# Altium footprint library 3phasedriver.PcbLib: 14 footprints
Each footprint in its own frame and in the unit in brackets; x right, y up, seen from the top. Pads: shape width x height; smd on the part's side, far side on the other; paste and mask are expansions set on the pad; w line width, h text height; cw(c..) or ccw(c..) is an arc to the next point about the centre after c.
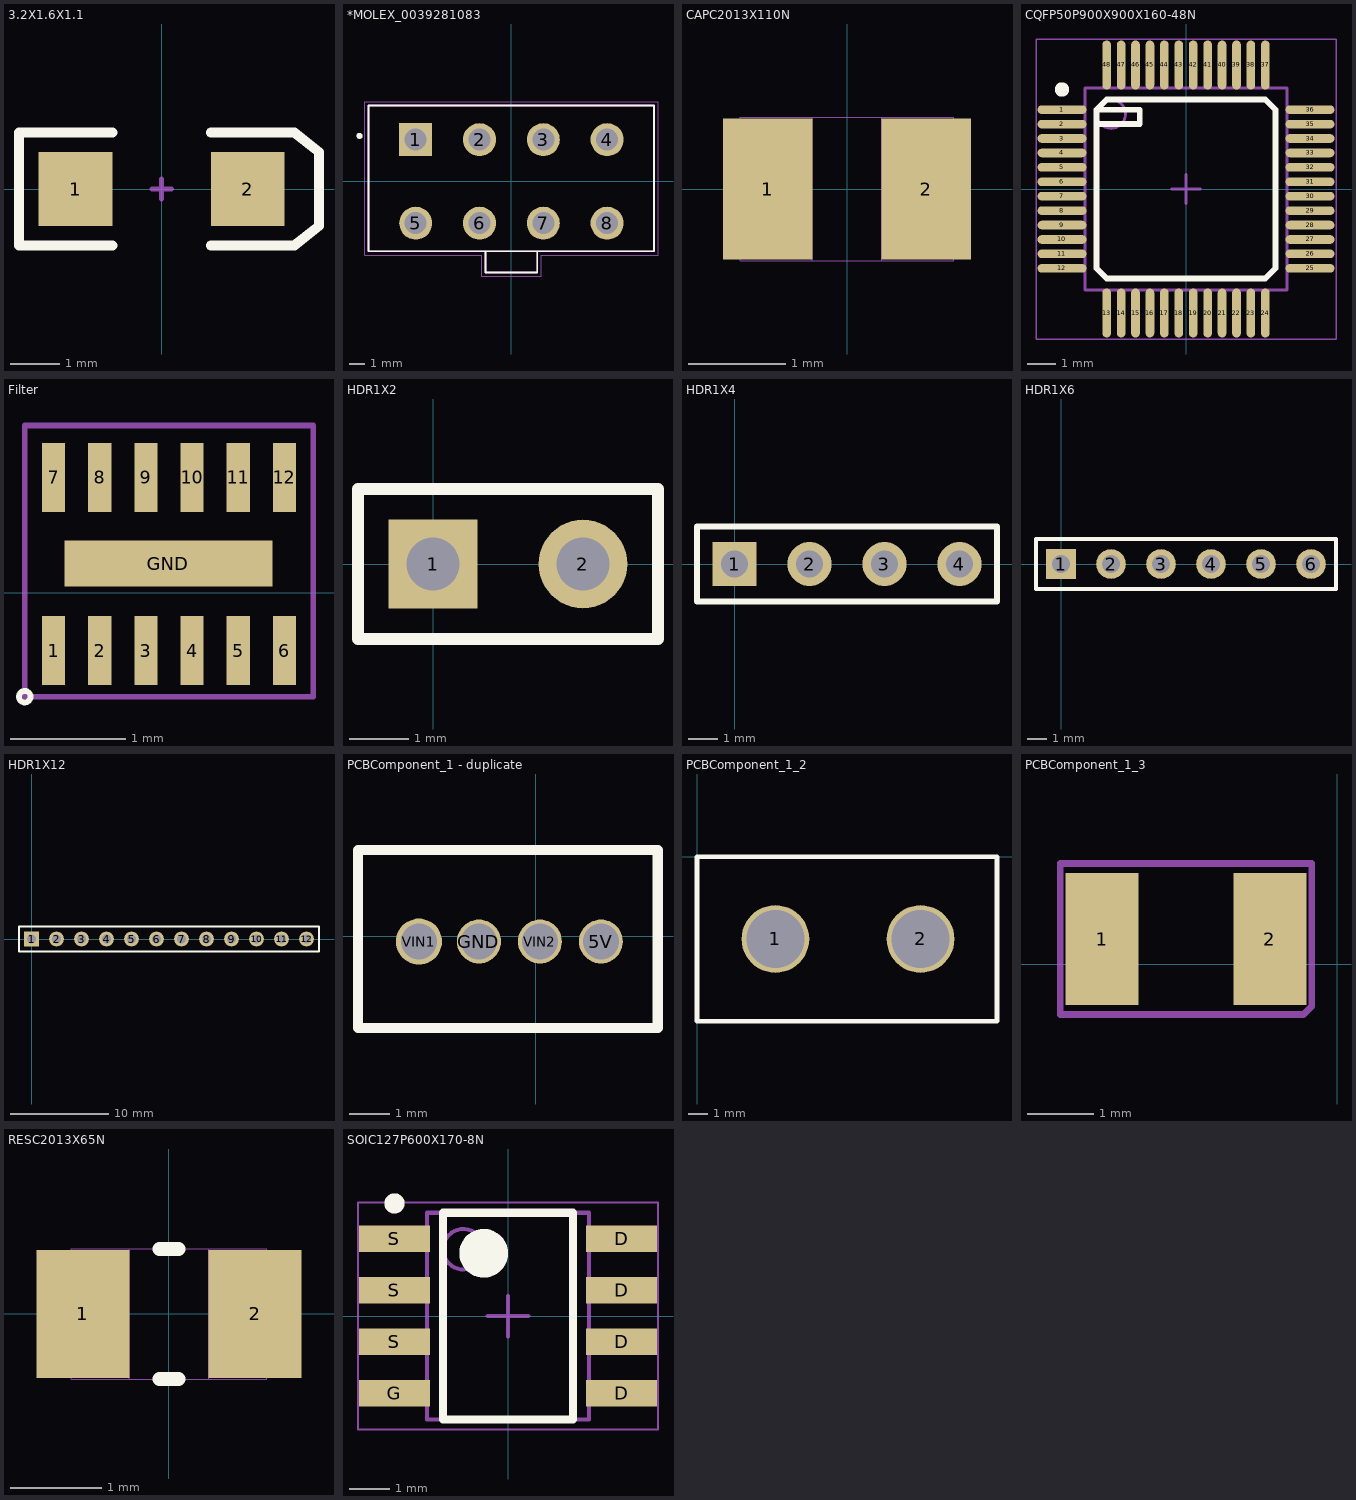
[diagram p0: the footprints below, top view; thin cyan lines are the x and y axes]

## 3.2X1.6X1.1 [mm]
pads (2):
  rect 1.5x1.5 smd: 1(-1.75,0) 2(1.75,0)
Top Overlay:
  lines w0.2: -1,-1.15 -2.9,-1.15 -2.9,1.15 -1,1.15 ; 1,-1.15 2.7,-1.15 3.2,-0.75 3.2,0.75 2.7,1.15 1,1.15
Mechanical 1:
  lines w0.1: -0.2,0 0.2,0 ; 0,-0.2 0,0.2

## *MOLEX_0039281083 [mm]
pads (8):
  rect 2.175x2.175 hole 1.45: 1(-6.3,2.75)
  round 2.175 hole 1.45: 2(-2.1,2.75) 3(2.1,2.75) 4(6.3,2.75) 5(-6.3,-2.75) 6(-2.1,-2.75) 7(2.1,-2.75) 8(6.3,-2.75)
Top Overlay:
  circle w0.2: c-10,3 r0.1
  lines w0.127: -1.7,-4.6 -1.7,-6 1.7,-6 1.7,-4.6 ; -1.7,-4.6 1.7,-4.6 ; -1.7,-4.6 -9.4,-4.6 -9.4,5 9.4,5 9.4,-4.6 1.7,-4.6
Mechanical 4:
  circle w0.2: c-10,3 r0.1
  circle w0.2: c-10,3 r0.1
  lines w0.127: -9.4,-4.6 -1.7,-4.6 ; -9.4,-4.6 -9.4,5 ; -9.4,-4.6 -1.7,-4.6 ; -9.4,-4.6 -9.4,5 ; -9.4,5 9.4,5 ; -9.4,5 9.4,5 ; -1.7,-6 -1.7,-4.6 ; -1.7,-6 1.7,-6 ; -1.7,-6 -1.7,-4.6 ; -1.7,-6 1.7,-6 ; -1.7,-4.6 1.7,-4.6 ; -1.7,-4.6 1.7,-4.6 ; 1.7,-6 1.7,-4.6 ; 1.7,-6 1.7,-4.6 ; 1.7,-4.6 9.4,-4.6 ; 1.7,-4.6 9.4,-4.6 ; 9.4,-4.6 9.4,5 ; 9.4,-4.6 9.4,5
Mechanical 16:
  lines w0.05: -9.65,-4.85 -1.95,-4.85 -1.95,-6.25 1.95,-6.25 1.95,-4.85 9.65,-4.85 9.65,5.25 -9.65,5.25 -9.65,-4.85

## CAPC2013X110N [mil]
pads (2):
  rect 36x57 smd: 1(-32,0) 2(32,0)
Mechanical 1:
  lines w0: -14,-29 14,-29 ; -14,-29 -43,-29 -43,29 -14,29 ; -14,-29 -14,29 ; -14,29 14,29 ; 14,-29 43,-29 43,29 14,29 ; 14,-29 14,29

## CQFP50P900X900X160-48N [mm]
pads (48):
  oval 1.7x0.3 smd: 1(-4.3,2.75) 2(-4.3,2.25) 3(-4.3,1.75) 4(-4.3,1.25) 5(-4.3,0.75) 6(-4.3,0.25) 7(-4.3,-0.25) 8(-4.3,-0.75) 9(-4.3,-1.25) 10(-4.3,-1.75) 11(-4.3,-2.25) 12(-4.3,-2.75) 25(4.3,-2.75) 26(4.3,-2.25) 27(4.3,-1.75) 28(4.3,-1.25) 29(4.3,-0.75) 30(4.3,-0.25) 31(4.3,0.25) 32(4.3,0.75) 33(4.3,1.25) 34(4.3,1.75) 35(4.3,2.25) 36(4.3,2.75)
  oval 0.3x1.7 smd: 13(-2.75,-4.3) 14(-2.25,-4.3) 15(-1.75,-4.3) 16(-1.25,-4.3) 17(-0.75,-4.3) 18(-0.25,-4.3) 19(0.25,-4.3) 20(0.75,-4.3) 21(1.25,-4.3) 22(1.75,-4.3) 23(2.25,-4.3) 24(2.75,-4.3) 37(2.75,4.3) 38(2.25,4.3) 39(1.75,4.3) 40(1.25,4.3) 41(0.75,4.3) 42(0.25,4.3) 43(-0.25,4.3) 44(-0.75,4.3) 45(-1.25,4.3) 46(-1.75,4.3) 47(-2.25,4.3) 48(-2.75,4.3)
Top Overlay:
  circle w0.25: c-4.3,3.45 r0.125
  lines w0.2: -3.1,2.25 -1.6,2.25 -1.6,2.75 -3.1,2.75 ; -3.1,2.75 -2.75,3.1 2.75,3.1 3.1,2.75 3.1,-2.75 2.75,-3.1 -2.75,-3.1 -3.1,-2.75 -3.1,2.75
Mechanical 13:
  circle w0.1: c-2.6,2.6 r0.5
  lines w0.1: -3.5,-3.5 3.5,-3.5 3.5,3.5 -3.5,3.5 -3.5,-3.5
Mechanical 15:
  lines w0.05: -5.2,-5.2 5.2,-5.2 5.2,5.2 -5.2,5.2 -5.2,-5.2
  lines w0.1: -0.5,0 0.5,0 ; 0,-0.5 0,0.5
3D body: height 1.6, standoff 0.1, extent -3.5,-3.5 3.5,3.5

## Filter [mm]
pads (13):
  rect 0.2x0.6 smd mask+0.05: 1(-2.9,-0.5) 2(-2.5,-0.5) 3(-2.1,-0.5) 4(-1.7,-0.5) 5(-1.3,-0.5) 6(-0.9,-0.5) 7(-2.9,1) 8(-2.5,1) 9(-2.1,1) 10(-1.7,1) 11(-1.3,1) 12(-0.9,1)
  rect 1.8x0.4 smd: GND(-1.905,0.254)
Top Overlay:
  circle w0.05: c-3.15,-0.9 r0.05
Mechanical 1:
  lines w0.05: -3.15,0.25 -3.15,1.45 -0.65,1.45 -0.65,0.25 ; -3.15,0.3 -3.15,-0.9 -0.65,-0.9 -0.65,0.3

## HDR1X2 [mm]
pads (2):
  rect 1.5x1.5 hole 0.9: 1(0,0)
  round 1.5 hole 0.9: 2(2.54,0)
Top Overlay:
  lines w0.2: -1.27,-1.27 -1.27,1.27 3.81,1.27 3.81,-1.27 -1.27,-1.27

## HDR1X4 [mm]
pads (4):
  rect 1.5x1.5 hole 0.9: 1(0,0)
  round 1.5 hole 0.9: 2(2.54,0) 3(5.08,0) 4(7.62,0)
Top Overlay:
  lines w0.2: -1.27,-1.27 -1.27,1.27 8.89,1.27 8.89,-1.27 -1.27,-1.27

## HDR1X6 [mm]
pads (6):
  rect 1.5x1.5 hole 0.9: 1(0,0)
  round 1.5 hole 0.9: 2(2.54,0) 3(5.08,0) 4(7.62,0) 5(10.16,0) 6(12.7,0)
Top Overlay:
  lines w0.2: -1.27,-1.27 -1.27,1.27 13.97,1.27 13.97,-1.27 -1.27,-1.27

## HDR1X12 [mm]
pads (12):
  rect 1.5x1.5 hole 0.9: 1(0,0)
  round 1.5 hole 0.9: 2(2.54,0) 3(5.08,0) 4(7.62,0) 5(10.16,0) 6(12.7,0) 7(15.24,0) 8(17.78,0) 9(20.32,0) 10(22.86,0) 11(25.4,0) 12(27.94,0)
Top Overlay:
  lines w0.2: -1.27,-1.27 -1.27,1.27 0.635,1.27 29.21,1.27 29.21,-1.27 -1.27,-1.27

## PCBComponent_1 - duplicate [mm]
pads (4):
  round 1.1 hole 0.9: 5V(1.627,-0.127) GND(-1.421,-0.127) VIN2(0.103,-0.127)
  round 1.15 hole 0.9: VIN1(-2.921,-0.127)
Top Overlay:
  lines w0.254: 3.048,-2.286 3.048,2.159 ; 3.055,-2.286 -4.445,-2.286 -4.445,2.159 3.055,2.159

## PCBComponent_1_2 [mm]
pads (2):
  round 3.5 hole 3: 1(4.05,-4.25) 2(11.55,-4.25)
Top Overlay:
  lines w0.254: 0,-4.3 0,0 ; 0,-0.1 0,-8.5 15.5,-8.5 15.5,0 0,0 ; 4.05,-4.25 4.05,-3.5 ; 7.75,0 0,0 ; 11.45,-4.25 11.45,-3

## PCBComponent_1_3 [mm]
pads (2):
  rect 1.1x2 smd: 1(-3.556,0.381) 2(-1.016,0.381)
Mechanical 1:
  lines w0.1: -4.191,-0.762 -4.191,1.524 -0.381,1.524 -0.381,-0.635 -0.508,-0.762 -4.191,-0.762

## RESC2013X65N [mil]
pads (2):
  rect 40x55 smd: 1(-37,0) 2(37,0)
Top Overlay:
  lines w6: -4,-28 4,-28 ; -4,28 4,28
Mechanical 1:
  lines w0: -17,-28 17,-28 ; -17,-28 -42,-28 -42,28 -17,28 ; -17,-28 -17,28 ; -17,28 17,28 ; 17,-28 42,-28 42,28 17,28 ; 17,-28 17,28

## SOIC127P600X170-8N [mm]
pads (8):
  rect 1.75x0.65 smd: D(2.8,-1.905) D(2.8,-0.635) D(2.8,0.635) D(2.8,1.905) G(-2.8,-1.905) S(-2.8,-0.635) S(-2.8,0.635) S(-2.8,1.905)
Top Overlay:
  circle w0.6: c-0.6,1.55 r0.3
  circle w0.25: c-2.8,2.78 r0.125
  lines w0.2: -1.6,-2.55 1.6,-2.55 1.6,2.55 -1.6,2.55 -1.6,-2.55
Mechanical 13:
  circle w0.1: c-1.1,1.65 r0.5
  lines w0.1: -2,-2.55 2,-2.55 2,2.55 -2,2.55 -2,-2.55
Mechanical 15:
  lines w0.05: -3.7,-2.8 3.7,-2.8 3.7,2.8 -3.7,2.8 -3.7,-2.8
  lines w0.1: -0.5,0 0.5,0 ; 0,-0.5 0,0.5
3D body: height 1.7, standoff 0.1, extent -2,-2.55 2,2.55